# Altium footprint library XT60H-F.PcbLib: 1 footprints
Each footprint in its own frame and in the unit in brackets; x right, y up, seen from the top. Pads: shape width x height; smd on the part's side, far side on the other; paste and mask are expansions set on the pad; w line width, h text height; cw(c..) or ccw(c..) is an arc to the next point about the centre after c.
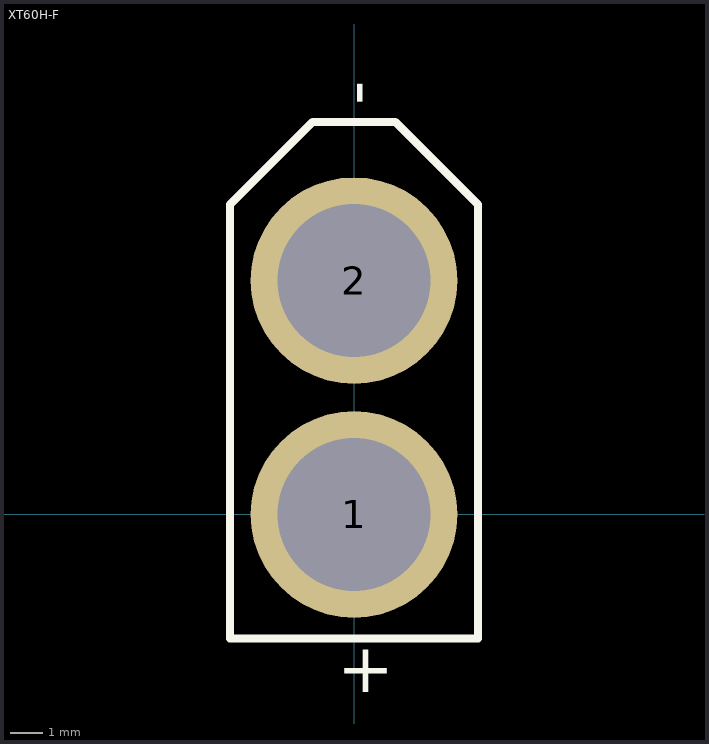
[diagram p0: the footprint, top view; thin cyan lines are the x and y axes]

## XT60H-F [mil]
pads (2):
  round 250 hole 185: 1(0,0) 2(0,283)
Top Overlay:
  lines w10: -150,-150 150,-150 150,375 50,475 -50,475 -150,375 -150,-150
  text "-" at 30,495 h60
  text "+" at -20,-215 h60